# Altium footprint library CON FTSH-108.PcbLib: 1 footprints
Each footprint in its own frame and in the unit in brackets; x right, y up, seen from the top. Pads: shape width x height; smd on the part's side, far side on the other; paste and mask are expansions set on the pad; w line width, h text height; cw(c..) or ccw(c..) is an arc to the next point about the centre after c.
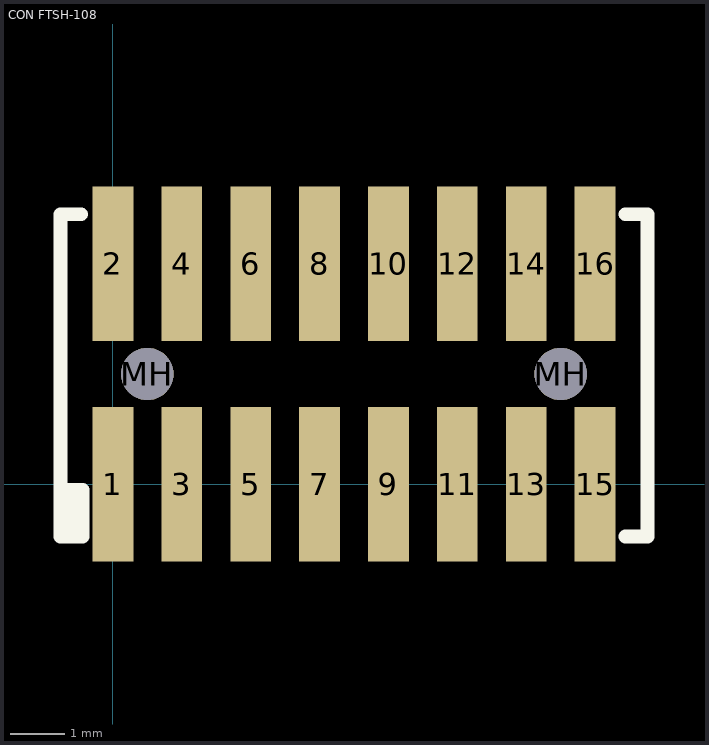
[diagram p0: the footprint, top view; thin cyan lines are the x and y axes]

## CON FTSH-108 [mil] "Samtec FTSH-108 Surface Mount Connector"
height 78.74
pads (18):
  rect 29.53x112 smd: 1(0,0) 2(0,160) 3(50,0) 4(50,160) 5(100,0) 6(100,160) 7(150,0) 8(150,160) 9(200,0) 10(200,160) 11(250,0) 12(250,160) 13(300,0) 14(300,160) 15(350,0) 16(350,160)
  round 38 hole 38 unplated: MH(25,80) MH(325,80)
TopOverlay:
  lines w10: -38,-4 -22,-4 -22,-38 -38,-38 -38,196 -23,196 ; -30,-30 -30,-10 ; 372,-38 388,-38 388,196 372,196